# Altium integrated library Philips Discrete BJT - Low Power.IntLib: 311 symbols (part 5 of 5)
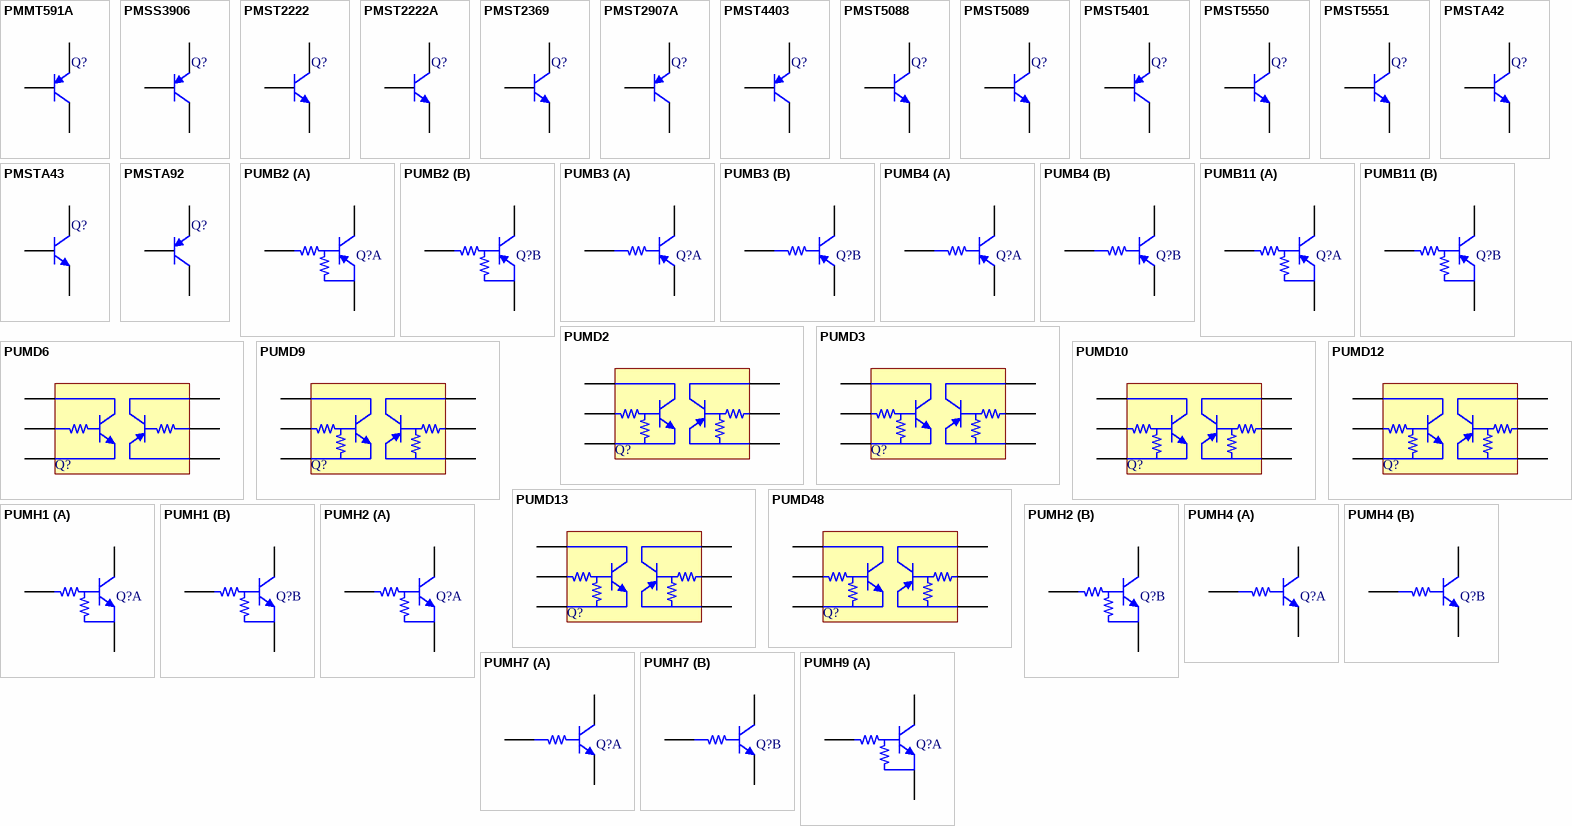
[diagram p12: symbols PMMT591A to PUMH9]

## PMSTA92
designator Q?
PNP High-voltage Transistor; Published: 17-Sep-2003; DatasheetVersion: 20-Feb-2001; PackageVersion: Apr-1999; PackageReference: SOT323; Publisher: Altium Limited; PackageDescription: SOT-323/SC-70; 3 Leads; Body 2.2 x 2.2 mm, inc. leads (LxW max); ComponentLink1Description: Manufacturer Link; ComponentLink1URL: http://www.semiconductors.philips.com/; ComponentLink2Description: Datasheet; ComponentLink2URL: http://www.semiconductors.philips.com/acrobat/datasheets/PMSTA92_3.pdf
footprint SOT323 (SOT-323/SC-70; 3 Leads; Body 2.2 x 2.2 mm, inc. leads (LxW max))
simulation model PMSTA92 (SUBCKT)
signal-integrity model PMSTA92
pins: 1 B, 2 E, 3 C

## PUMB2
designator Q?
PNP Resistor-equipped Double Transistor; Published: 17-Sep-2003; DatasheetVersion: 3-Aug-1999; PackageVersion: Feb-1997; PackageReference: SOT363; Publisher: Altium Limited; PackageDescription: SOT-363/SC-88; 6 Leads; Body 2.2 x 2.2 mm, inc. leads (LxW max); ComponentLink1Description: Manufacturer Link; ComponentLink1URL: http://www.semiconductors.philips.com/; ComponentLink2Description: Datasheet; ComponentLink2URL: http://www.semiconductors.philips.com/acrobat/datasheets/PEMB2_PUMB2_2.pdf
footprint SOT363 (SOT-363/SC-88; 6 Leads; Body 2.2 x 2.2 mm, inc. leads (LxW max))
simulation model PUMB2 (SUBCKT)
signal-integrity model PUMB2
part A pins: 1 E, 2 B, 6 C
part B pins: 3 C, 4 E, 5 B

## PUMB3
designator Q?
PNP Resistor-equipped Double Transistor; R1 = 4.7kOhm; Published: 17-Sep-2003; DatasheetVersion: 19-Sep-2001; PackageVersion: Feb-1997; PackageReference: SOT363; Publisher: Altium Limited; PackageDescription: SOT-363/SC-88; 6 Leads; Body 2.2 x 2.2 mm, inc. leads (LxW max); ComponentLink1Description: Manufacturer Link; ComponentLink1URL: http://www.semiconductors.philips.com/; ComponentLink2Description: Datasheet; ComponentLink2URL: http://www.semiconductors.philips.com/acrobat/datasheets/PEMB3_PUMB3_2.pdf
footprint SOT363 (SOT-363/SC-88; 6 Leads; Body 2.2 x 2.2 mm, inc. leads (LxW max))
simulation model PUMB3 (SUBCKT)
signal-integrity model PUMB3
part A pins: 1 E, 2 B, 6 C
part B pins: 3 C, 4 E, 5 B

## PUMB4
designator Q?
PNP Resistor-equipped Double Transistor; Published: 17-Sep-2003; DatasheetVersion: 12-Apr-1999; PackageVersion: Feb-1997; PackageReference: SOT363; Publisher: Altium Limited; PackageDescription: SOT-363/SC-88; 6 Leads; Body 2.2 x 2.2 mm, inc. leads (LxW max); ComponentLink1Description: Manufacturer Link; ComponentLink1URL: http://www.semiconductors.philips.com/; ComponentLink2Description: Datasheet; ComponentLink2URL: http://www.semiconductors.philips.com/acrobat/datasheets/PEMB4_PUMB4_4.pdf
footprint SOT363 (SOT-363/SC-88; 6 Leads; Body 2.2 x 2.2 mm, inc. leads (LxW max))
simulation model PUMB4 (SUBCKT)
signal-integrity model PUMB4
part A pins: 1 E, 2 B, 6 C
part B pins: 3 C, 4 E, 5 B

## PUMB11
designator Q?
PNP Resistor-equipped Double Transistor; Published: 17-Sep-2003; DatasheetVersion: 8-Aug-2000; PackageVersion: Feb-1997; PackageReference: SOT363; Publisher: Altium Limited; PackageDescription: SOT-363/SC-88; 6 Leads; Body 2.2 x 2.2 mm, inc. leads (LxW max); ComponentLink1Description: Manufacturer Link; ComponentLink1URL: http://www.semiconductors.philips.com/; ComponentLink2Description: Datasheet; ComponentLink2URL: http://www.semiconductors.philips.com/acrobat/datasheets/PEMB11_PUMB11_2.pdf
footprint SOT363 (SOT-363/SC-88; 6 Leads; Body 2.2 x 2.2 mm, inc. leads (LxW max))
simulation model PUMB11 (SUBCKT)
signal-integrity model PUMB11
part A pins: 1 E, 2 B, 6 C
part B pins: 3 C, 4 E, 5 B

## PUMD2
designator Q?
NPN/PNP Resistor-equipped Transistor; Published: 17-Sep-2003; DatasheetVersion: 16-Feb-2001; PackageVersion: Feb-1997; PackageReference: SOT363; Publisher: Altium Limited; PackageDescription: SOT-363/SC-88; 6 Leads; Body 2.2 x 2.2 mm, inc. leads (LxW max); ComponentLink1Description: Manufacturer Link; ComponentLink1URL: http://www.semiconductors.philips.com/; ComponentLink2Description: Datasheet; ComponentLink2URL: http://www.semiconductors.philips.com/acrobat/datasheets/PEMD2_PIMD2_PUMD2_6.pdf
footprint SOT363 (SOT-363/SC-88; 6 Leads; Body 2.2 x 2.2 mm, inc. leads (LxW max))
simulation model PUMD2 (SUBCKT)
signal-integrity model PUMD2
pins: 1 E1, 2 B1, 3 C2, 4 E2, 5 B2, 6 C1

## PUMD3
designator Q?
NPN/PNP Resistor-equipped Transistor; Published: 17-Sep-2003; DatasheetVersion: 16-Feb-2001; PackageVersion: Feb-1997; PackageReference: SOT363; Publisher: Altium Limited; PackageDescription: SOT-363/SC-88; 6 Leads; Body 2.2 x 2.2 mm, inc. leads (LxW max); ComponentLink1Description: Manufacturer Link; ComponentLink1URL: http://www.semiconductors.philips.com/; ComponentLink2Description: Datasheet; ComponentLink2URL: http://www.semiconductors.philips.com/acrobat/datasheets/PEMD3_PIMD3_PUMD3_9.pdf
footprint SOT363 (SOT-363/SC-88; 6 Leads; Body 2.2 x 2.2 mm, inc. leads (LxW max))
simulation model PUMD3 (SUBCKT)
signal-integrity model PUMD3
pins: 1 E1, 2 B1, 3 C2, 4 E2, 5 B2, 6 C1

## PUMD6
designator Q?
NPN/PNP Resistor-equipped Transistor; Published: 17-Sep-2003; DatasheetVersion: 28-May-1999; PackageVersion: Feb-1997; PackageReference: SOT363; Publisher: Altium Limited; PackageDescription: SOT-363/SC-88; 6 Leads; Body 2.2 x 2.2 mm, inc. leads (LxW max); ComponentLink1Description: Manufacturer Link; ComponentLink1URL: http://www.semiconductors.philips.com/; ComponentLink2Description: Datasheet; ComponentLink2URL: http://www.semiconductors.philips.com/acrobat/datasheets/PEMD6_PUMD6_4.pdf
footprint SOT363 (SOT-363/SC-88; 6 Leads; Body 2.2 x 2.2 mm, inc. leads (LxW max))
simulation model PUMD6 (SUBCKT)
signal-integrity model PUMD6
pins: 1 E1, 2 B1, 3 C2, 4 E2, 5 B2, 6 C1

## PUMD9
designator Q?
NPN/PNP Resistor-equipped Transistor; Published: 17-Sep-2003; DatasheetVersion: 16-Feb-2001; PackageVersion: Feb-1997; PackageReference: SOT363; Publisher: Altium Limited; PackageDescription: SOT-363/SC-88; 6 Leads; Body 2.2 x 2.2 mm, inc. leads (LxW max); ComponentLink1Description: Manufacturer Link; ComponentLink1URL: http://www.semiconductors.philips.com/; ComponentLink2Description: Datasheet; ComponentLink2URL: http://www.semiconductors.philips.com/acrobat/datasheets/PEMD9_PUMD9_5.pdf
footprint SOT363 (SOT-363/SC-88; 6 Leads; Body 2.2 x 2.2 mm, inc. leads (LxW max))
simulation model PUMD9 (SUBCKT)
signal-integrity model PUMD9
pins: 1 E1, 2 B1, 3 C2, 4 E2, 5 B2, 6 C1

## PUMD10
designator Q?
NPN/PNP Resistor-equipped Transistor; Published: 17-Sep-2003; DatasheetVersion: 16-Feb-2001; PackageVersion: Feb-1997; PackageReference: SOT363; Publisher: Altium Limited; PackageDescription: SOT-363/SC-88; 6 Leads; Body 2.2 x 2.2 mm, inc. leads (LxW max); ComponentLink1Description: Manufacturer Link; ComponentLink1URL: http://www.semiconductors.philips.com/; ComponentLink2Description: Datasheet; ComponentLink2URL: http://www.semiconductors.philips.com/acrobat/datasheets/PEMD10_PUMD10_5.pdf
footprint SOT363 (SOT-363/SC-88; 6 Leads; Body 2.2 x 2.2 mm, inc. leads (LxW max))
simulation model PUMD10 (SUBCKT)
signal-integrity model PUMD10
pins: 1 E1, 2 B1, 3 C2, 4 E2, 5 B2, 6 C1

## PUMD12
designator Q?
NPN/PNP Resistor-equipped Transistor; Published: 17-Sep-2003; DatasheetVersion: 16-Feb-2001; PackageVersion: Feb-1997; PackageReference: SOT363; Publisher: Altium Limited; PackageDescription: SOT-363/SC-88; 6 Leads; Body 2.2 x 2.2 mm, inc. leads (LxW max); ComponentLink1Description: Manufacturer Link; ComponentLink1URL: http://www.semiconductors.philips.com/; ComponentLink2Description: Datasheet; ComponentLink2URL: http://www.semiconductors.philips.com/acrobat/datasheets/PEMD12_PUMD12_3.pdf
footprint SOT363 (SOT-363/SC-88; 6 Leads; Body 2.2 x 2.2 mm, inc. leads (LxW max))
simulation model PUMD12 (SUBCKT)
signal-integrity model PUMD12
pins: 1 E1, 2 B1, 3 C2, 4 E2, 5 B2, 6 C1

## PUMD13
designator Q?
NPN/PNP Resistor-equipped Transistor; Published: 17-Sep-2003; DatasheetVersion: 27-Feb-2001; PackageVersion: Feb-1997; PackageReference: SOT363; Publisher: Altium Limited; PackageDescription: SOT-363/SC-88; 6 Leads; Body 2.2 x 2.2 mm, inc. leads (LxW max); ComponentLink1Description: Manufacturer Link; ComponentLink1URL: http://www.semiconductors.philips.com/; ComponentLink2Description: Datasheet; ComponentLink2URL: http://www.semiconductors.philips.com/acrobat/datasheets/PEMD13_PUMD13_2.pdf
footprint SOT363 (SOT-363/SC-88; 6 Leads; Body 2.2 x 2.2 mm, inc. leads (LxW max))
simulation model PUMD13 (SUBCKT)
signal-integrity model PUMD13
pins: 1 E1, 2 B1, 3 C2, 4 E2, 5 B2, 6 C1

## PUMD48
designator Q?
NPN/PNP Resistor-equipped Transistor; Published: 17-Sep-2003; DatasheetVersion: 1-Feb-2001; PackageVersion: Feb-1997; PackageReference: SOT363; Publisher: Altium Limited; PackageDescription: SOT-363/SC-88; 6 Leads; Body 2.2 x 2.2 mm, inc. leads (LxW max); ComponentLink1Description: Manufacturer Link; ComponentLink1URL: http://www.semiconductors.philips.com/; ComponentLink2Description: Datasheet; ComponentLink2URL: http://www.semiconductors.philips.com/acrobat/datasheets/PEMD48_PUMD48_4.pdf
footprint SOT363 (SOT-363/SC-88; 6 Leads; Body 2.2 x 2.2 mm, inc. leads (LxW max))
simulation model PUMD48 (SUBCKT)
signal-integrity model PUMD48
pins: 1 E1, 2 B1, 3 C2, 4 E2, 5 B2, 6 C1

## PUMH1
designator Q?
NPN Resistor-equipped Double Transistor; Published: 17-Sep-2003; DatasheetVersion: 20-May-1999; PackageVersion: Feb-1997; PackageReference: SOT363; Publisher: Altium Limited; PackageDescription: SOT-363/SC-88; 6 Leads; Body 2.2 x 2.2 mm, inc. leads (LxW max); ComponentLink1Description: Manufacturer Link; ComponentLink1URL: http://www.semiconductors.philips.com/; ComponentLink2Description: Datasheet; ComponentLink2URL: http://www.semiconductors.philips.com/acrobat/datasheets/PEMH1_PUMH1_4.pdf
footprint SOT363 (SOT-363/SC-88; 6 Leads; Body 2.2 x 2.2 mm, inc. leads (LxW max))
simulation model PUMH1 (SUBCKT)
signal-integrity model PUMH1
part A pins: 1 E, 2 B, 6 C
part B pins: 3 C, 4 E, 5 B

## PUMH2
designator Q?
NPN Resistor-equipped Double Transistor; Published: 17-Sep-2003; DatasheetVersion: 3-Aug-1999; PackageVersion: Feb-1997; PackageReference: SOT363; Publisher: Altium Limited; PackageDescription: SOT-363/SC-88; 6 Leads; Body 2.2 x 2.2 mm, inc. leads (LxW max); ComponentLink1Description: Manufacturer Link; ComponentLink1URL: http://www.semiconductors.philips.com/; ComponentLink2Description: Datasheet; ComponentLink2URL: http://www.semiconductors.philips.com/acrobat/datasheets/PEMH2_PUMH2_3.pdf
footprint SOT363 (SOT-363/SC-88; 6 Leads; Body 2.2 x 2.2 mm, inc. leads (LxW max))
simulation model PUMH2 (SUBCKT)
signal-integrity model PUMH2
part A pins: 1 E, 2 B, 6 C
part B pins: 3 C, 4 E, 5 B

## PUMH4
designator Q?
NPN Resistor-equipped Double Transistor; Published: 17-Sep-2003; DatasheetVersion: 20-May-1999; PackageVersion: Feb-1997; PackageReference: SOT363; Publisher: Altium Limited; PackageDescription: SOT-363/SC-88; 6 Leads; Body 2.2 x 2.2 mm, inc. leads (LxW max); ComponentLink1Description: Manufacturer Link; ComponentLink1URL: http://www.semiconductors.philips.com/; ComponentLink2Description: Datasheet; ComponentLink2URL: http://www.semiconductors.philips.com/acrobat/datasheets/PEMH4_PUMH4_5.pdf
footprint SOT363 (SOT-363/SC-88; 6 Leads; Body 2.2 x 2.2 mm, inc. leads (LxW max))
simulation model PUMH4 (SUBCKT)
signal-integrity model PUMH4
part A pins: 1 E, 2 B, 6 C
part B pins: 3 C, 4 E, 5 B

## PUMH7
designator Q?
NPN Resistor-equipped Double Transistor; Published: 17-Sep-2003; DatasheetVersion: 22-Apr-1999; PackageVersion: Feb-1997; PackageReference: SOT363; Publisher: Altium Limited; PackageDescription: SOT-363/SC-88; 6 Leads; Body 2.2 x 2.2 mm, inc. leads (LxW max); ComponentLink1Description: Manufacturer Link; ComponentLink1URL: http://www.semiconductors.philips.com/; ComponentLink2Description: Datasheet; ComponentLink2URL: http://www.semiconductors.philips.com/acrobat/datasheets/PEMH7_PUMH7_3.pdf
footprint SOT363 (SOT-363/SC-88; 6 Leads; Body 2.2 x 2.2 mm, inc. leads (LxW max))
simulation model PUMH7 (SUBCKT)
signal-integrity model PUMH7
part A pins: 1 E, 2 B, 6 C
part B pins: 3 C, 4 E, 5 B

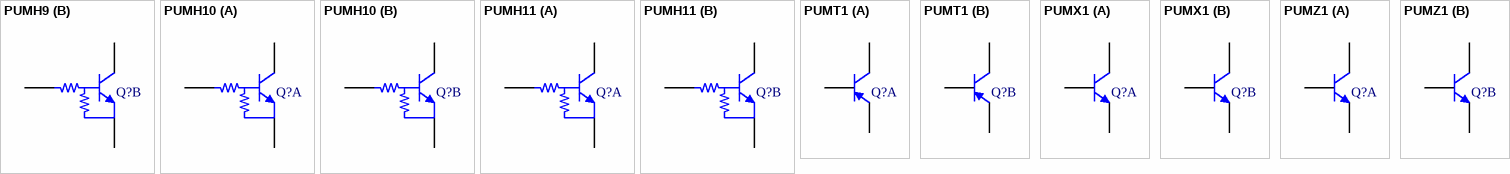
[diagram p8: symbols PUMH9 to PUMZ1]

## PUMH9
designator Q?
NPN Resistor-equipped Double Transistor; Published: 17-Sep-2003; DatasheetVersion: 5-Jun-2001; PackageVersion: Feb-1997; PackageReference: SOT363; Publisher: Altium Limited; PackageDescription: SOT-363/SC-88; 6 Leads; Body 2.2 x 2.2 mm, inc. leads (LxW max); ComponentLink1Description: Manufacturer Link; ComponentLink1URL: http://www.semiconductors.philips.com/; ComponentLink2Description: Datasheet; ComponentLink2URL: http://www.semiconductors.philips.com/acrobat/datasheets/PIMH9_PUMH9_PEMH9_4.pdf
footprint SOT363 (SOT-363/SC-88; 6 Leads; Body 2.2 x 2.2 mm, inc. leads (LxW max))
simulation model PUMH9 (SUBCKT)
signal-integrity model PUMH9
part A pins: 1 E, 2 B, 6 C
part B pins: 3 C, 4 E, 5 B

## PUMH10
designator Q?
NPN Resistor-equipped Double Transistor; Published: 17-Sep-2003; DatasheetVersion: Aug-2000; PackageVersion: Feb-1997; PackageReference: SOT363; Publisher: Altium Limited; PackageDescription: SOT-363/SC-88; 6 Leads; Body 2.2 x 2.2 mm, inc. leads (LxW max); ComponentLink1Description: Manufacturer Link; ComponentLink1URL: http://www.semiconductors.philips.com/; ComponentLink2Description: Datasheet; ComponentLink2URL: http://www.semiconductors.philips.com/acrobat/datasheets/PEMH10_PUMH10_2.pdf
footprint SOT363 (SOT-363/SC-88; 6 Leads; Body 2.2 x 2.2 mm, inc. leads (LxW max))
signal-integrity model PUMH10
part A pins: 1 E, 2 B, 6 C
part B pins: 3 C, 4 E, 5 B

## PUMH11
designator Q?
NPN Resistor-equipped Double Transistor; Published: 17-Sep-2003; DatasheetVersion: 13-Apr-1999; PackageVersion: Feb-1997; PackageReference: SOT363; Publisher: Altium Limited; PackageDescription: SOT-363/SC-88; 6 Leads; Body 2.2 x 2.2 mm, inc. leads (LxW max); ComponentLink1Description: Manufacturer Link; ComponentLink1URL: http://www.semiconductors.philips.com/; ComponentLink2Description: Datasheet; ComponentLink2URL: http://www.semiconductors.philips.com/acrobat/datasheets/PEMH11_PUMH11_5.pdf
footprint SOT363 (SOT-363/SC-88; 6 Leads; Body 2.2 x 2.2 mm, inc. leads (LxW max))
simulation model PUMH11 (SUBCKT)
signal-integrity model PUMH11
part A pins: 1 E, 2 B, 6 C
part B pins: 3 C, 4 E, 5 B

## PUMT1
designator Q?
PNP General-purpose Double Transistor; Published: 17-Sep-2003; DatasheetVersion: 19-Dec-2001; PackageVersion: Feb-1997; PackageReference: SOT363; Publisher: Altium Limited; PackageDescription: SOT-363/SC-88; 6 Leads; Body 2.2 x 2.2 mm, inc. leads (LxW max); ComponentLink1Description: Manufacturer Link; ComponentLink1URL: http://www.semiconductors.philips.com/; ComponentLink2Description: Datasheet; ComponentLink2URL: http://www.semiconductors.philips.com/acrobat/datasheets/PUMT1_4.pdf
footprint SOT363 (SOT-363/SC-88; 6 Leads; Body 2.2 x 2.2 mm, inc. leads (LxW max))
signal-integrity model PUMT1
part A pins: 1 E, 2 B, 6 C
part B pins: 3 C, 4 E, 5 B

## PUMX1
designator Q?
NPN General-purpose Double Transistor; Published: 17-Sep-2003; DatasheetVersion: 14-Apr-1999; PackageVersion: Feb-1997; PackageReference: SOT363; Publisher: Altium Limited; PackageDescription: SOT-363/SC-88; 6 Leads; Body 2.2 x 2.2 mm, inc. leads (LxW max); ComponentLink1Description: Manufacturer Link; ComponentLink1URL: http://www.semiconductors.philips.com/; ComponentLink2Description: Datasheet; ComponentLink2URL: http://www.semiconductors.philips.com/acrobat/datasheets/PUMX1_3.pdf
footprint SOT363 (SOT-363/SC-88; 6 Leads; Body 2.2 x 2.2 mm, inc. leads (LxW max))
signal-integrity model PUMX1
part A pins: 1 E, 2 B, 6 C
part B pins: 3 C, 4 E, 5 B

## PUMZ1
designator Q?
NPN/PNP General-purpose Transistor; Published: 17-Sep-2003; DatasheetVersion: 6-May-2002; PackageVersion: Feb-1997; PackageReference: SOT363; Publisher: Altium Limited; PackageDescription: SOT-363/SC-88; 6 Leads; Body 2.2 x 2.2 mm, inc. leads (LxW max); ComponentLink1Description: Manufacturer Link; ComponentLink1URL: http://www.semiconductors.philips.com/; ComponentLink2Description: Datasheet; ComponentLink2URL: http://www.semiconductors.philips.com/acrobat/datasheets/PUMZ1_5.pdf
footprint SOT363 (SOT-363/SC-88; 6 Leads; Body 2.2 x 2.2 mm, inc. leads (LxW max))
signal-integrity model PUMZ1
part A pins: 1 E, 2 B, 6 C
part B pins: 3 C, 4 E, 5 B